# Altium footprint library pcb_library.PcbLib: 29 footprints (part 1 of 2)
Each footprint in its own frame and in the unit in brackets; x right, y up, seen from the top. Pads: shape width x height; smd on the part's side, far side on the other; paste and mask are expansions set on the pad; w line width, h text height; cw(c..) or ccw(c..) is an arc to the next point about the centre after c.
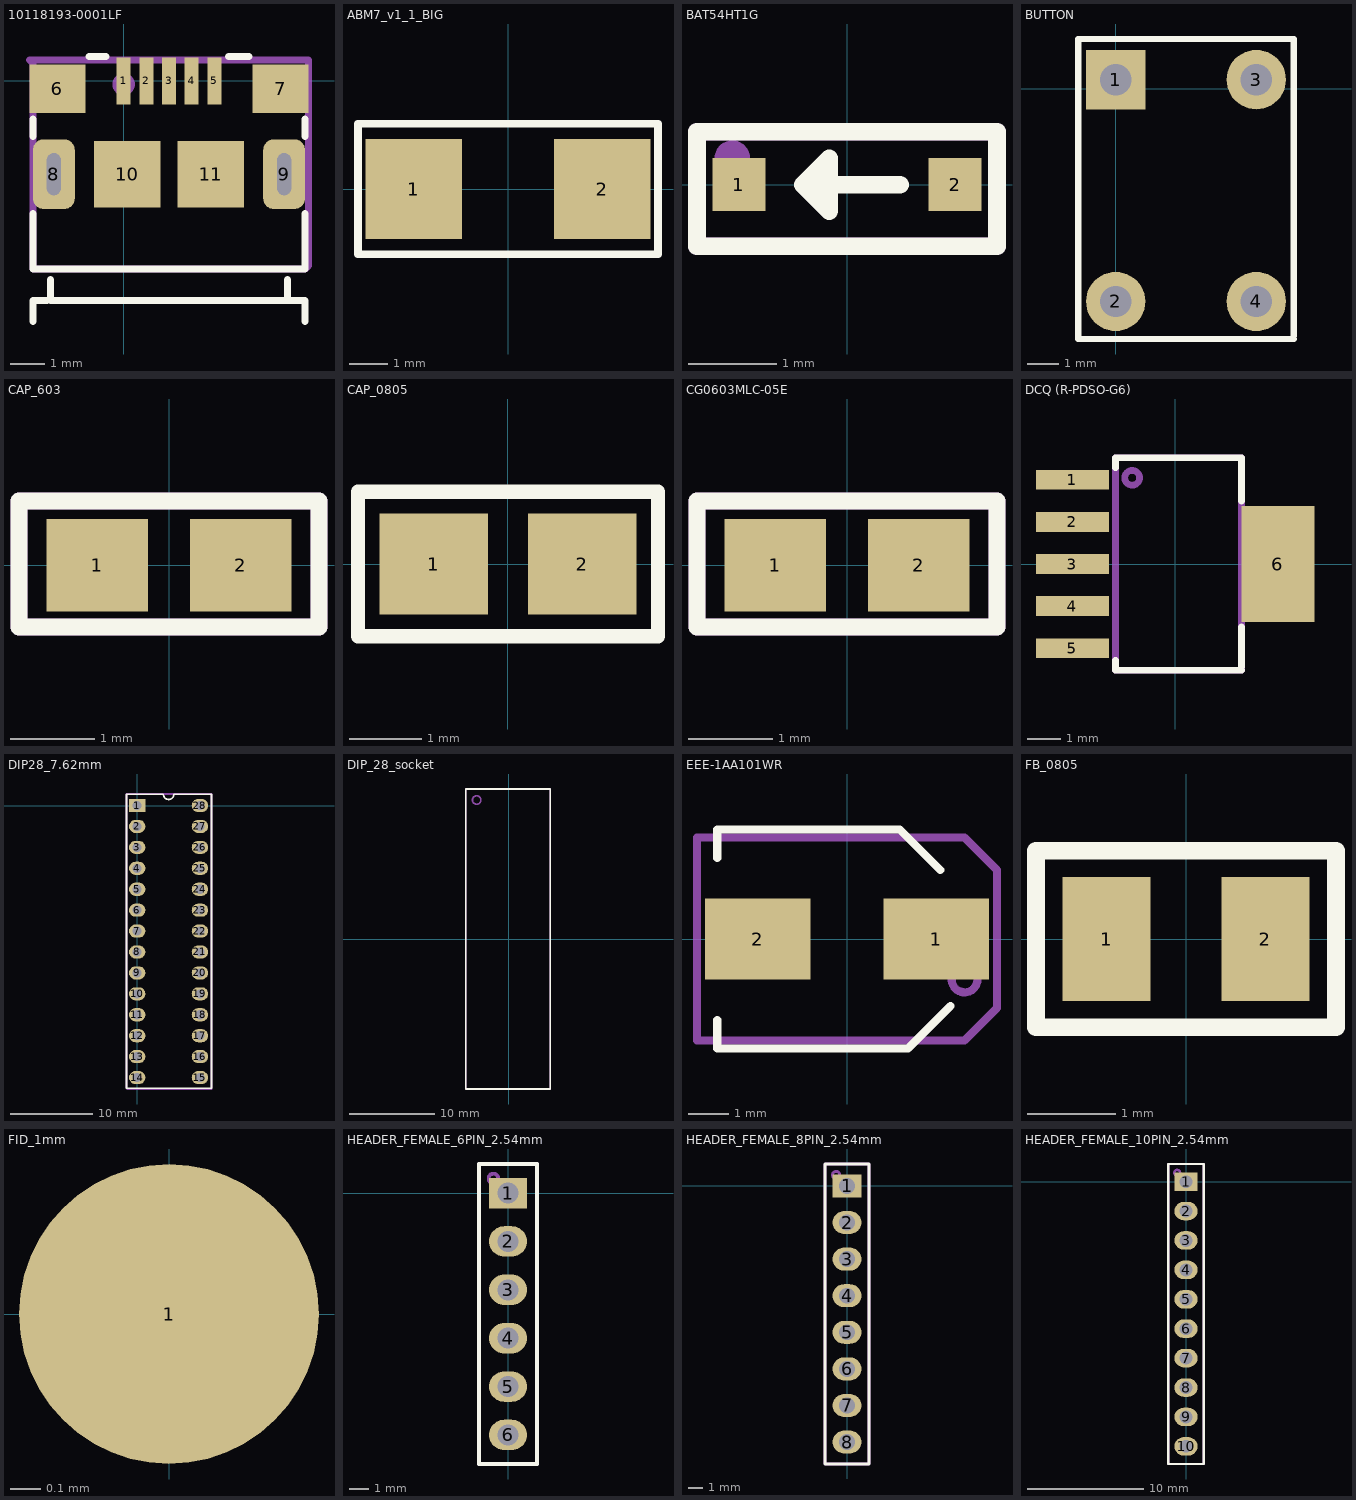
[diagram p0: the footprints below, top view; thin cyan lines are the x and y axes]

## 10118193-0001LF [mm]
pads (11):
  rect 0.4x1.35 smd mask+0.05: 1(0,0) 2(0.65,0) 3(1.3,0) 4(1.95,0) 5(2.6,0)
  rect 1.6x1.4 smd mask+0.05: 6(-1.9,-0.225) 7(4.5,-0.225)
  rrect50% 1.2x2 hole 0.4 slot 1.2 at 90 deg mask+0.05: 8(-2,-2.675) 9(4.6,-2.675)
  rect 1.9x1.9 smd mask+0.05: 10(0.1,-2.675) 11(2.5,-2.675)
Top Overlay:
  lines w0.2: -2.6,-6.9 -2.6,-6.3 -2.2,-6.3 ; -2.6,-3.8 -2.6,-5.4 5.2,-5.4 5.2,-3.8 ; -2.6,-1.6 -2.6,-1.1 ; -2.1,-5.7 -2.1,-6.3 4.7,-6.3 ; -1,0.7 -0.5,0.7 ; 3,0.7 3.6,0.7 ; 4.7,-5.7 4.7,-6.3 ; 5.2,-6.9 5.2,-6.3 4.7,-6.3 ; 5.2,-1.6 5.2,-1.1
Mechanical 29:
  circle w0.2: c0,-0.1 r0.224
  lines w0.2: -2.7,0.6 -2.6,0.5 -2.6,-5.4 5.2,-5.4 5.3,-5.3 5.3,0.6 -2.7,0.6
  text ".Designator" at -1.046,-2.279 h0.8
3D body "10118193-0001lfc.stp": height 2.81, standoff -0.79, extent -2.629,-5.461 5.229,0.2

## ABM7_v1_1_BIG [mm]
pads (2):
  rect 2.5x2.6 smd: 1(-2.45,0) 2(2.45,0)
Top Overlay:
  lines w0.2: -3.9,-1.7 -3.9,1.7 3.9,1.7 3.9,-1.7 -3.9,-1.7
Mechanical 29:
  text ".Designator" at -1.146,-0.079 h0.8
3D body "ABM7.STEP": height 1.41, standoff 0.01, extent -2.997,-1.753 2.997,1.753

## BAT54HT1G [mm]
pads (2):
  rect 0.6x0.6 smd: 1(-1.225,0) 2(1.225,0)
Top Overlay:
  lines w0.2: 0.6,0 -0.5,0 ; -0.5,0 -0.2,-0.3 -0.2,0.3 -0.5,0 ; -1.7,-0.7 1.7,-0.7 1.7,0.6 -1.7,0.6 -1.7,-0.475 -1.7,-0.7
Mechanical 29:
  circle w0.2: c-1.3,0.3 r0.1
  lines w0.2: -1.7,-0.7 -1.7,0.6 1.2,0.6 1.7,0.6 1.7,-0.7 -1.7,-0.7
  text ".Designator" at -1.446,-0.179 h0.8
3D body "User Library-SOD323.step": height 0.9, standoff -0.09, extent -1.25,-0.7 1.25,0.55

## BUTTON [mm]
pads (4):
  rect 1.9x1.9 hole 1: 1(0,0.3)
  round 1.9 hole 1: 2(0,-6.8) 3(4.5,0.3) 4(4.5,-6.8)
Top Overlay:
  lines w0.2: 5.7,-8 -1.2,-8 -1.2,1.6 1,1.6 5.7,1.6 5.7,-7.9
3D body "1825910-6.stp": height 5, standoff -3.51, extent -0.795,-7.1 5.195,0.7

## CAP_603 [mm]
pads (2):
  rect 1.2x1.1 smd: 1(-0.85,0) 2(0.85,0)
Top Overlay:
  lines w0.2: -1.778,-0.73 -1.778,0.478 -1.778,0.762 1.778,0.762 1.778,-0.73 -1.778,-0.73
Mechanical 29:
  lines w0.2: -1.778,-0.73 -1.778,0.762 1.778,0.762 1.778,-0.73 -1.778,-0.73
  text ".Designator" at -1.524,-0.21 h0.8
3D body "06035G104ZAT2A.stp": height 0.9, standoff 0, extent -0.8,-0.405 0.8,0.405

## CAP_0805 [mm]
pads (2):
  rect 1.5x1.4 smd: 1(-1.025,0) 2(1.025,0)
Top Overlay:
  lines w0.2: -2.075,-1 -2.075,0 -2.075,1 2.075,1 2.075,-1 -2.075,-1
Mechanical 29:
  text ".Designator" at -1.846,-0.379 h0.8
3D body "CL21A106KOQNNNG.stp": height 0.75, standoff 0, extent -1,-0.625 1,0.625
3D body "CL21A106KOQNNNG.stp": height 1.25, standoff 0.5, extent -1,-0.625 1,0.625

## CG0603MLC-05E [mm]
pads (2):
  rect 1.2x1.1 smd: 1(-0.85,0) 2(0.85,0)
Top Overlay:
  lines w0.2: -1.778,-0.73 -1.778,0.478 -1.778,0.762 1.778,0.762 1.778,-0.73 -1.778,-0.73
Mechanical 29:
  lines w0.2: -1.778,-0.73 -1.778,0.762 1.778,0.762 1.778,-0.73 -1.778,-0.73
  text ".Designator" at -1.446,1.321 h0.8
3D body "CG0603MLC-05E.stp": height 0.55, standoff 0, extent -0.8,-0.4 0.8,0.4

## DCQ (R-PDSO-G6) [mm]
pads (6):
  rect 2.2x0.6 smd: 1(-3.1,2.54) 2(-3.1,1.27) 3(-3.1,0) 4(-3.1,-1.27) 5(-3.1,-2.54)
  rect 2.2x3.5 smd: 6(3.1,0)
Top Overlay:
  lines w0.2: -1.8,-2.9 -1.8,-3.2 1.8,-3.2 2,-3.2 ; -1.8,2.9 -1.8,3.2 1.8,3.2 2,3.2 2,1.9 ; 2,-3.1 2,-1.9
Mechanical 29:
  circle w0.2: c-1.3,2.6 r0.224
  lines w0.2: -1.8,-3.2 2,-3.2 2,3.2 -1.7,3.2 -1.8,3.2 -1.8,-2.9 -1.8,-3.2
  text ".Designator" at -0.946,0.121 h0.8
3D body "TL1963A-33DCQR.stp": height 1.8, standoff 0, extent -3.53,-3.26 3.53,3.24

## DIP28_7.62mm [mm]
pads (28):
  rect 2x1.6 hole 1.1: 1(0,0)
  oval 2x1.6 hole 1.1: 2(0,-2.54) 3(0,-5.08) 4(0,-7.62) 5(0,-10.16) 6(0,-12.7) 7(0,-15.24) 8(0,-17.78) 9(0,-20.32) 10(0,-22.86) 11(0,-25.4) 12(0,-27.94) 13(0,-30.48) 14(0,-33.02) 15(7.62,-33.02) 16(7.62,-30.48) 17(7.62,-27.94) 18(7.62,-25.4) 19(7.62,-22.86) 20(7.62,-20.32) 21(7.62,-17.78) 22(7.62,-15.24) 23(7.62,-12.7) 24(7.62,-10.16) 25(7.62,-7.62) 26(7.62,-5.08) 27(7.62,-2.54) 28(7.62,0)
Top Overlay:
  lines w0.2: -1.29,1.27 -1.29,-34.31 9.01,-34.31 9.01,1.27 ; -1.29,1.37 3.175,1.37 ccw(c3.81,1.37) 4.445,1.37 9.01,1.37
Mechanical 29:
  circle w0.254: c0.01,-0.01 r0.51
  lines w0.254: -1.29,-34.31 -1.19,-34.41 9.01,-34.41 9.01,1.39 -1.29,1.39 -1.29,-34.31
  text ".Designator" at 4.148,-21.756 h1.52
3D body "User Library-28 pin dip-2.step": height 4.85, standoff -1.37, extent 0.073,-34.461 7.947,1.481

## DIP_28_socket [mm]
Top Overlay:
  lines w0.2: 4.9,17.6 4.9,-17.7 -5.1,-17.7 -5.1,17.7 4.9,17.7
Mechanical 29:
  circle w0.2: c-3.8,16.4 r0.5
  lines w0.2: -5.1,-17.7 -5.1,17.7 4.9,17.7 4.9,-17.7 -5.1,-17.7
3D body "dil_socket.stp": height 2.81, standoff -4.56, extent -5.15,-17.75 4.95,17.75

## EEE-1AA101WR [mm]
pads (2):
  rect 2.6x2 smd: 1(2.2,0) 2(-2.2,0)
Top Overlay:
  lines w0.2: -3.2,-2 -3.2,-2.7 1.5,-2.7 2.55,-1.65 ; -3.2,2 -3.2,2.7 1.3,2.7 2.3,1.7
Mechanical 29:
  circle w0.2: c2.9,-1 r0.316
  lines w0.2: -3.7,-2.5 -3.7,2.5 2.9,2.5 3.7,1.7 3.7,-1.7 2.9,-2.5 -3.7,-2.5
  text ".Designator" at -2.746,-0.179 h0.8
3D body "EEE-1AA101WR.stp": height 5.5, standoff 0, extent -3.25,-2.75 3.25,2.75

## FB_0805 [mm]
pads (2):
  rect 1x1.4 smd: 1(-0.9,0) 2(0.9,0)
Top Overlay:
  lines w0.2: -1.7,-1 -1.7,-0.4 -1.7,1 1.7,1 1.7,0.1 1.7,-0.1 1.7,-1 -1.7,-1
3D body "MPZ2012S601AT000.stp": height 1.05, standoff 0, extent -1,-0.625 1,0.625

## FID_1mm [mm]
pads (1):
  round 1 smd paste-1 mask+1: 1(0,0)

## HEADER_FEMALE_6PIN_2.54mm [mm]
pads (6):
  rect 2x1.6 hole 1.1: 1(0,0)
  oval 2x1.6 hole 1.1: 2(0,-2.54) 3(0,-5.08) 4(0,-7.62) 5(0,-10.16) 6(0,-12.7)
Top Overlay:
  lines w0.2: -1.524,-14.224 1.524,-14.224 1.524,1.524 -1.524,1.524 -1.524,-14.224
Mechanical 29:
  circle w0.2: c-0.762,0.762 r0.254
  lines w0.2: -1.524,-14.224 1.524,-14.224 1.524,1.524 -1.524,1.524 -1.524,-14.224
  text ".Designator" at 0.241,-9.906 h0.8
3D body "m20-7820642_asm.stp": height 8.31, standoff -3.19, extent -1.25,-14.17 1.25,1.47

## HEADER_FEMALE_8PIN_2.54mm [mm]
pads (8):
  rect 2x1.6 hole 1.1: 1(0,0)
  oval 2x1.6 hole 1.1: 2(0,-2.54) 3(0,-5.08) 4(0,-7.62) 5(0,-10.16) 6(0,-12.7) 7(0,-15.24) 8(0,-17.78)
Top Overlay:
  lines w0.2: -1.524,-19.304 -1.524,1.524 1.524,1.524 1.524,-19.304 -1.524,-19.304
Mechanical 29:
  circle w0.2: c-0.762,0.762 r0.254
  lines w0.2: -1.524,-19.304 -1.524,1.524 1.524,1.524 1.524,-19.304 -1.524,-19.304
  text ".Designator" at 0.241,-11.938 h0.8
3D body "m20-7820842_asm.stp": height 8.31, standoff -3.19, extent -1.25,-19.304 1.25,1.416

## HEADER_FEMALE_10PIN_2.54mm [mm]
pads (10):
  rect 2x1.6 hole 1.1: 1(0,0)
  oval 2x1.6 hole 1.1: 2(0,-2.54) 3(0,-5.08) 4(0,-7.62) 5(0,-10.16) 6(0,-12.7) 7(0,-15.24) 8(0,-17.78) 9(0,-20.32) 10(0,-22.86)
Top Overlay:
  lines w0.2: -1.524,-24.384 -1.524,1.524 1.524,1.524 1.524,-24.384 -1.524,-24.384
Mechanical 29:
  circle w0.2: c-0.762,0.762 r0.254
  lines w0.2: -1.524,-24.384 -1.524,1.524 1.524,1.524 1.524,-24.384 -1.524,-24.384
  text ".Designator" at 0.241,-15.24 h0.8
3D body "m20-7821042_asm.stp": height 8.51, standoff -2.99, extent -1.23,-24.33 1.27,1.47